# EAGLE library part STEREOPOT (library EurorackModularParts)
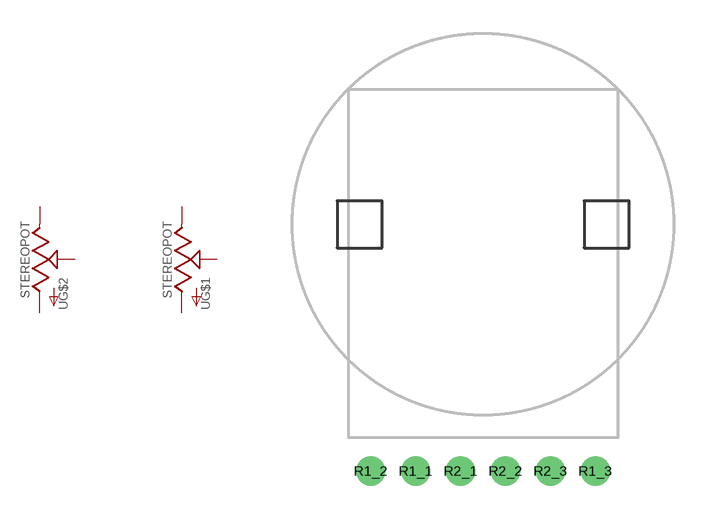
[diagram p14: symbol with the pads of RK12; footprint RK12]

Designator prefix -; gates G$1=POT G$2=POT

## STEREOPOTRK12  [RK12]
R1_1  G$1:E  pas
R1_2  G$1:S  pas
R1_3  G$1:A  pas
R2_1  G$2:E  pas
R2_2  G$2:S  pas
R2_3  G$2:A  pas

## Footprint RK12 (pad centres in mm)
drill 0.8: R1_1 -3,-11; R1_2 -5,-11; R1_3 5,-11; R2_1 -1,-11; R2_2 1,-11; R2_3 3,-11